# Altium footprint library SOP_65P_L.PcbLib: 37 footprints (part 3 of 3)
Each footprint in its own frame and in the unit in brackets; x right, y up, seen from the top. Pads: shape width x height; smd on the part's side, far side on the other; paste and mask are expansions set on the pad; w line width, h text height; cw(c..) or ccw(c..) is an arc to the next point about the centre after c.
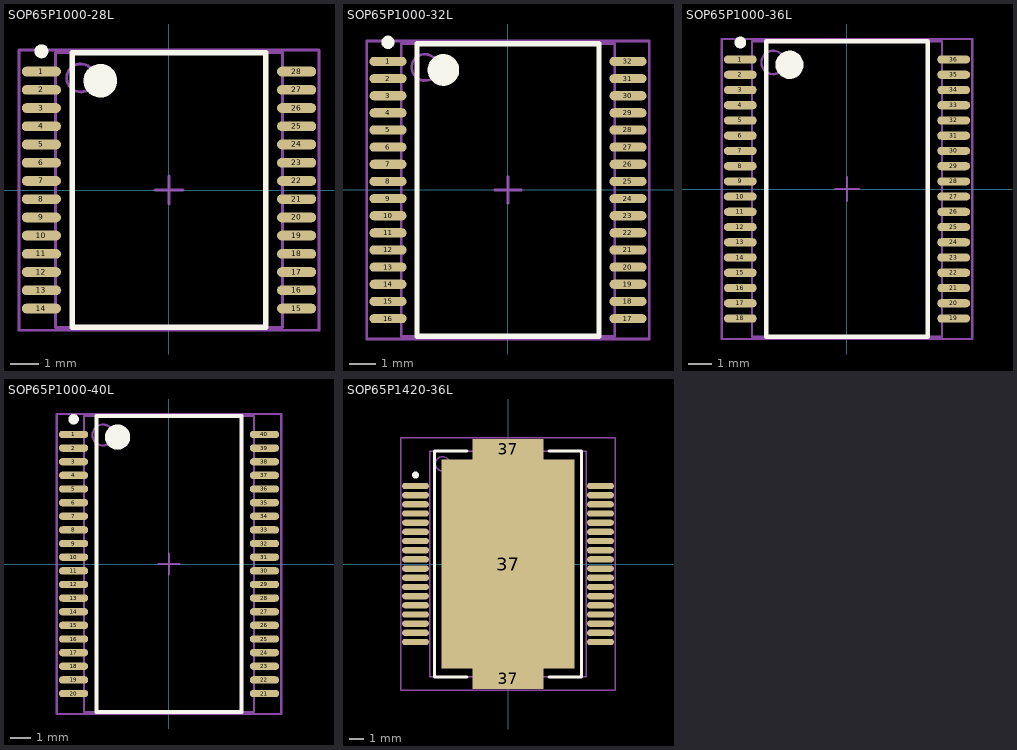
[diagram p2: the footprints below, top view; thin cyan lines are the x and y axes]

## SOP65P1000-28L [mm] "SOP, 28-Leads, Body 9.7x8mm, Pitch 0.65mm, IPC High Density"
height 2
pads (28):
  oval 1.4x0.35 smd: 1(-4.55,4.225) 2(-4.55,3.575) 3(-4.55,2.925) 4(-4.55,2.275) 5(-4.55,1.625) 6(-4.55,0.975) 7(-4.55,0.325) 8(-4.55,-0.325) 9(-4.55,-0.975) 10(-4.55,-1.625) 11(-4.55,-2.275) 12(-4.55,-2.925) 13(-4.55,-3.575) 14(-4.55,-4.225) 15(4.55,-4.225) 16(4.55,-3.575) 17(4.55,-2.925) 18(4.55,-2.275) 19(4.55,-1.625) 20(4.55,-0.975) 21(4.55,-0.325) 22(4.55,0.325) 23(4.55,0.975) 24(4.55,1.625) 25(4.55,2.275) 26(4.55,2.925) 27(4.55,3.575) 28(4.55,4.225)
Top Overlay:
  circle w0.6: c-2.45,3.9 r0.3
  circle w0.25: c-4.55,4.95 r0.125
  lines w0.2: -3.45,-4.9 3.45,-4.9 3.45,4.9 -3.45,4.9 -3.45,-4.9
Mechanical 13:
  circle w0.1: c-3.15,4 r0.5
  lines w0.1: -4.05,-4.9 4.05,-4.9 4.05,4.9 -4.05,4.9 -4.05,-4.9
Mechanical 15:
  lines w0.1: -0.5,0 0.5,0 ; 0,-0.5 0,0.5 ; -5.35,-5 5.35,-5 5.35,5 -5.35,5 -5.35,-5
3D body: height 2, standoff 0, extent -4.05,-4.9 4.05,4.9

## SOP65P1000-32L [mm] "SOP, 32-Leads, Body 11x8mm, Pitch 0.65mm, IPC High Density"
height 2
pads (32):
  oval 1.4x0.35 smd: 1(-4.55,4.875) 2(-4.55,4.225) 3(-4.55,3.575) 4(-4.55,2.925) 5(-4.55,2.275) 6(-4.55,1.625) 7(-4.55,0.975) 8(-4.55,0.325) 9(-4.55,-0.325) 10(-4.55,-0.975) 11(-4.55,-1.625) 12(-4.55,-2.275) 13(-4.55,-2.925) 14(-4.55,-3.575) 15(-4.55,-4.225) 16(-4.55,-4.875) 17(4.55,-4.875) 18(4.55,-4.225) 19(4.55,-3.575) 20(4.55,-2.925) 21(4.55,-2.275) 22(4.55,-1.625) 23(4.55,-0.975) 24(4.55,-0.325) 25(4.55,0.325) 26(4.55,0.975) 27(4.55,1.625) 28(4.55,2.275) 29(4.55,2.925) 30(4.55,3.575) 31(4.55,4.225) 32(4.55,4.875)
Top Overlay:
  circle w0.6: c-2.45,4.55 r0.3
  circle w0.25: c-4.55,5.6 r0.125
  lines w0.2: -3.45,-5.55 3.45,-5.55 3.45,5.55 -3.45,5.55 -3.45,-5.55
Mechanical 13:
  circle w0.1: c-3.15,4.65 r0.5
  lines w0.1: -4.05,-5.55 4.05,-5.55 4.05,5.55 -4.05,5.55 -4.05,-5.55
Mechanical 15:
  lines w0.1: -0.5,0 0.5,0 ; 0,-0.5 0,0.5 ; -5.35,-5.65 5.35,-5.65 5.35,5.65 -5.35,5.65 -5.35,-5.65
3D body: height 2, standoff 0, extent -4.05,-5.55 4.05,5.55

## SOP65P1000-36L [mm] "SOP, 36-Leads, Body 12.5x8mm, Pitch 0.65mm, IPC High Density"
height 2
pads (36):
  oval 1.4x0.35 smd: 1(-4.55,5.525) 2(-4.55,4.875) 3(-4.55,4.225) 4(-4.55,3.575) 5(-4.55,2.925) 6(-4.55,2.275) 7(-4.55,1.625) 8(-4.55,0.975) 9(-4.55,0.325) 10(-4.55,-0.325) 11(-4.55,-0.975) 12(-4.55,-1.625) 13(-4.55,-2.275) 14(-4.55,-2.925) 15(-4.55,-3.575) 16(-4.55,-4.225) 17(-4.55,-4.875) 18(-4.55,-5.525) 19(4.55,-5.525) 20(4.55,-4.875) 21(4.55,-4.225) 22(4.55,-3.575) 23(4.55,-2.925) 24(4.55,-2.275) 25(4.55,-1.625) 26(4.55,-0.975) 27(4.55,-0.325) 28(4.55,0.325) 29(4.55,0.975) 30(4.55,1.625) 31(4.55,2.275) 32(4.55,2.925) 33(4.55,3.575) 34(4.55,4.225) 35(4.55,4.875) 36(4.55,5.525)
Top Overlay:
  circle w0.6: c-2.45,5.3 r0.3
  circle w0.25: c-4.55,6.25 r0.125
  lines w0.2: -3.45,-6.3 3.45,-6.3 3.45,6.3 -3.45,6.3 -3.45,-6.3
Mechanical 13:
  circle w0.1: c-3.15,5.4 r0.5
  lines w0.1: -4.05,-6.3 4.05,-6.3 4.05,6.3 -4.05,6.3 -4.05,-6.3
Mechanical 15:
  lines w0.1: -0.5,0 0.5,0 ; 0,-0.5 0,0.5 ; -5.35,-6.4 5.35,-6.4 5.35,6.4 -5.35,6.4 -5.35,-6.4
3D body: height 2, standoff 0, extent -4.05,-6.3 4.05,6.3

## SOP65P1000-40L [mm] "SOP, 40-Leads, Body 14x8mm, Pitch 0.65mm, IPC High Density"
height 2
pads (40):
  oval 1.4x0.35 smd: 1(-4.55,6.175) 2(-4.55,5.525) 3(-4.55,4.875) 4(-4.55,4.225) 5(-4.55,3.575) 6(-4.55,2.925) 7(-4.55,2.275) 8(-4.55,1.625) 9(-4.55,0.975) 10(-4.55,0.325) 11(-4.55,-0.325) 12(-4.55,-0.975) 13(-4.55,-1.625) 14(-4.55,-2.275) 15(-4.55,-2.925) 16(-4.55,-3.575) 17(-4.55,-4.225) 18(-4.55,-4.875) 19(-4.55,-5.525) 20(-4.55,-6.175) 21(4.55,-6.175) 22(4.55,-5.525) 23(4.55,-4.875) 24(4.55,-4.225) 25(4.55,-3.575) 26(4.55,-2.925) 27(4.55,-2.275) 28(4.55,-1.625) 29(4.55,-0.975) 30(4.55,-0.325) 31(4.55,0.325) 32(4.55,0.975) 33(4.55,1.625) 34(4.55,2.275) 35(4.55,2.925) 36(4.55,3.575) 37(4.55,4.225) 38(4.55,4.875) 39(4.55,5.525) 40(4.55,6.175)
Top Overlay:
  circle w0.6: c-2.45,6.05 r0.3
  circle w0.25: c-4.55,6.9 r0.125
  lines w0.2: -3.45,-7.05 3.45,-7.05 3.45,7.05 -3.45,7.05 -3.45,-7.05
Mechanical 13:
  circle w0.1: c-3.15,6.15 r0.5
  lines w0.1: -4.05,-7.05 4.05,-7.05 4.05,7.05 -4.05,7.05 -4.05,-7.05
Mechanical 15:
  lines w0.1: -0.5,0 0.5,0 ; 0,-0.5 0,0.5 ; -5.35,-7.15 5.35,-7.15 5.35,7.15 -5.35,7.15 -5.35,-7.15
3D body: height 2, standoff 0, extent -4.05,-7.05 4.05,7.05

## SOP65P1420-36L [mm] "SOP, 36-Leads, Body 15.9x11mm, Pitch 0.65mm, Slug, IPC High Density"
height 3.6
pads (39):
  oval 1.9x0.45 smd: 1(-6.55,5.525) 2(-6.55,4.875) 3(-6.55,4.225) 4(-6.55,3.575) 5(-6.55,2.925) 6(-6.55,2.275) 7(-6.55,1.625) 8(-6.55,0.975) 9(-6.55,0.325) 10(-6.55,-0.325) 11(-6.55,-0.975) 12(-6.55,-1.625) 13(-6.55,-2.275) 14(-6.55,-2.925) 15(-6.55,-3.575) 16(-6.55,-4.225) 17(-6.55,-4.875) 18(-6.55,-5.525) 19(6.55,-5.525) 20(6.55,-4.875) 21(6.55,-4.225) 22(6.55,-3.575) 23(6.55,-2.925) 24(6.55,-2.275) 25(6.55,-1.625) 26(6.55,-0.975) 27(6.55,-0.325) 28(6.55,0.325) 29(6.55,0.975) 30(6.55,1.625) 31(6.55,2.275) 32(6.55,2.925) 33(6.55,3.575) 34(6.55,4.225) 35(6.55,4.875) 36(6.55,5.525)
  rect 5x1.45 smd: 37(0,-8.125) 37(0,8.125)
  rect 9.4x14.8 smd: 37(0,0)
Top Overlay:
  circle w0.25: c-6.55,6.3 r0.125
  lines w0.2: -2.9,-8 -5.2,-8 -5.2,8 -2.9,8 ; 2.9,-8 5.2,-8 5.2,8 2.9,8
Mechanical 13:
  circle w0.1: c-4.65,7.1 r0.5
  lines w0.1: -5.55,-8 -5.55,8 5.55,8 5.55,-8 -5.55,-8
Mechanical 15:
  lines w0.1: -0.5,0 0.5,0 ; 0,-0.5 0,0.5 ; -7.6,-8.95 -7.6,8.95 7.6,8.95 7.6,-8.95 -7.6,-8.95
3D body: height 3.6, standoff 0, extent -5.55,-8 5.55,8